# EAGLE library part S25FL (library TL-WR703N)
32-Mbit CMOS 3.0 Volt Flash Memory with 104-MHz SPI (Serial Peripheral Interface) Multi I/O Bus Based on: S25FL032P Datasheet <http://www.spansion.com/Support/Datasheets/S25FL032P_00.pdf> Copyright © 2012, Michel Stempin, All rights reserved Licenced under Creative Commons CC BY-SA 3.0 <http://creativecommons.org/licenses/by-sa/3.0/deed.en> license.
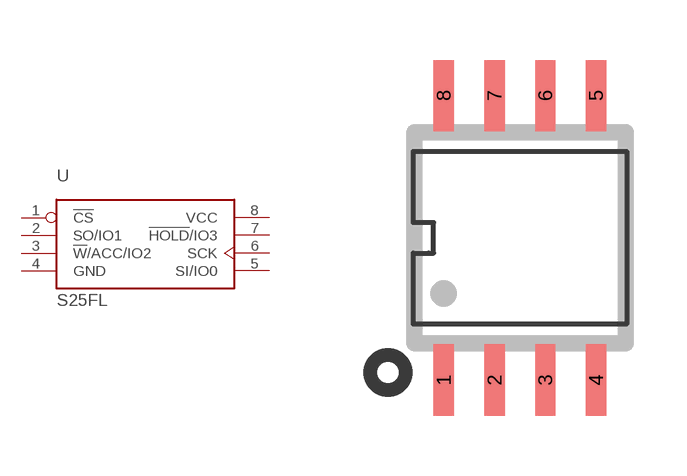
[diagram p6: symbol with the pads of SOP8; footprint SOP8]

Designator prefix U

## S25FL032P0XMFI01 (DENSITY: 32 Mbit)  [SOP8]
1  !CS  in
2  SO/IO1
3  !W!/ACC/IO2
4  GND  pwr
5  SI/IO0
6  SCK  in
7  !HOLD!/IO3
8  VCC  pwr

## Footprint SOP8 (pad centres in mm)
SOP8 208-mils Body Width Package Copyright © 2012, Michel Stempin, All rights reserved Licenced under Creative Commons CC BY-SA 3.0 <http://creativecommons.org/licenses/by-sa/3.0/deed.en> license.
smd 0.508 x 1.778: 1 -1.905,-3.556; 2 -0.635,-3.556; 3 0.635,-3.556; 4 1.905,-3.556; 5 1.905,3.556; 6 0.635,3.556; 7 -0.635,3.556; 8 -1.905,3.556